# EAGLE library part A4915 (library 0HuskyRobotics17-18)
The Allegro A4915 is a predriver chip for brushless dc motors. It drives 6 n channel mosfets. Uses hall effect sensor input from motor.
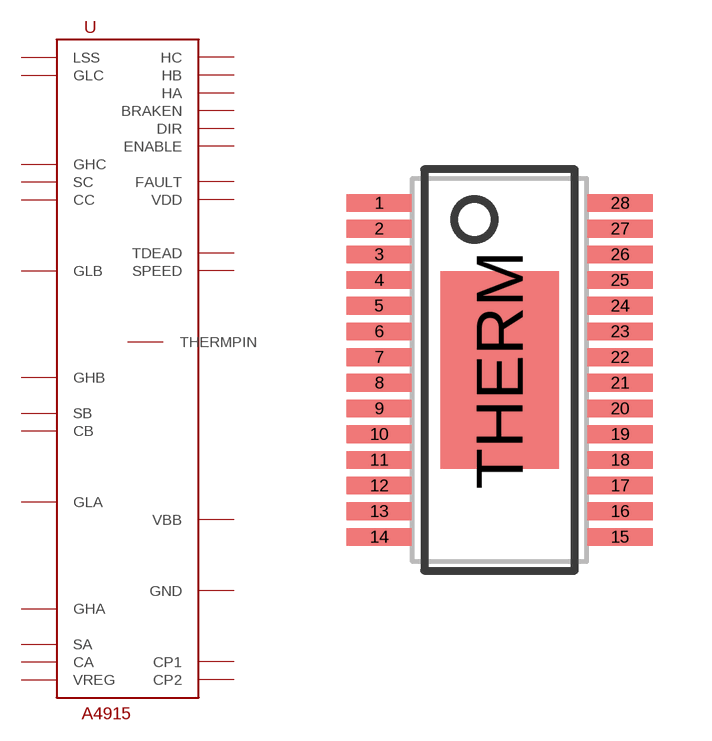
[diagram p0: symbol with the pads of TSSOP28A4915; footprint TSSOP28A4915]

Designator prefix U

## A4915SSOP  [TSSOP28A4915]
1  LSS  in
2  GLC  out
3  GHC  out
4  SC
5  CC
6  GLB  out
7  GHB  out
8  SB
9  CB
10  GLA  out
11  GHA  out
12  SA
13  CA
14  VREG  in
15  CP2
16  CP1
17  GND  in
18  VBB  in
19  SPEED  in
20  TDEAD
21  VDD  pwr
22  FAULT
23  ENABLE  in
24  DIR  in
25  BRAKEN
26  HA  in
27  HB  in
28  HC  in
THERM  THERMPIN  in

## Footprint TSSOP28A4915 (pad centres in mm)
28TSSOP, 28 pin TSSOP with exposed thermal pad. Made for Allegro A4915 Alex Hoffman
smd 1.65 x 0.45: 1 -3.05,4.225; 2 -3.05,3.575; 3 -3.05,2.925; 4 -3.05,2.275; 5 -3.05,1.625; 6 -3.05,0.975; 7 -3.05,0.325; 8 -3.05,-0.325; 9 -3.05,-0.975; 10 -3.05,-1.625; 11 -3.05,-2.275; 12 -3.05,-2.925; 13 -3.05,-3.575; 14 -3.05,-4.225; 15 3.05,-4.225; 16 3.05,-3.575; 17 3.05,-2.925; 18 3.05,-2.275; 19 3.05,-1.625; 20 3.05,-0.975; 21 3.05,-0.325; 22 3.05,0.325; 23 3.05,0.975; 24 3.05,1.625; 25 3.05,2.275; 26 3.05,2.925; 27 3.05,3.575; 28 3.05,4.225
smd 3 x 5: THERM 0,0